# Altium footprint library WE-SHC.PcbLib: 139 footprints (part 6 of 10)
Each footprint in its own frame and in the unit in brackets; x right, y up, seen from the top. Pads: shape width x height; smd on the part's side, far side on the other; paste and mask are expansions set on the pad; w line width, h text height; cw(c..) or ccw(c..) is an arc to the next point about the centre after c.
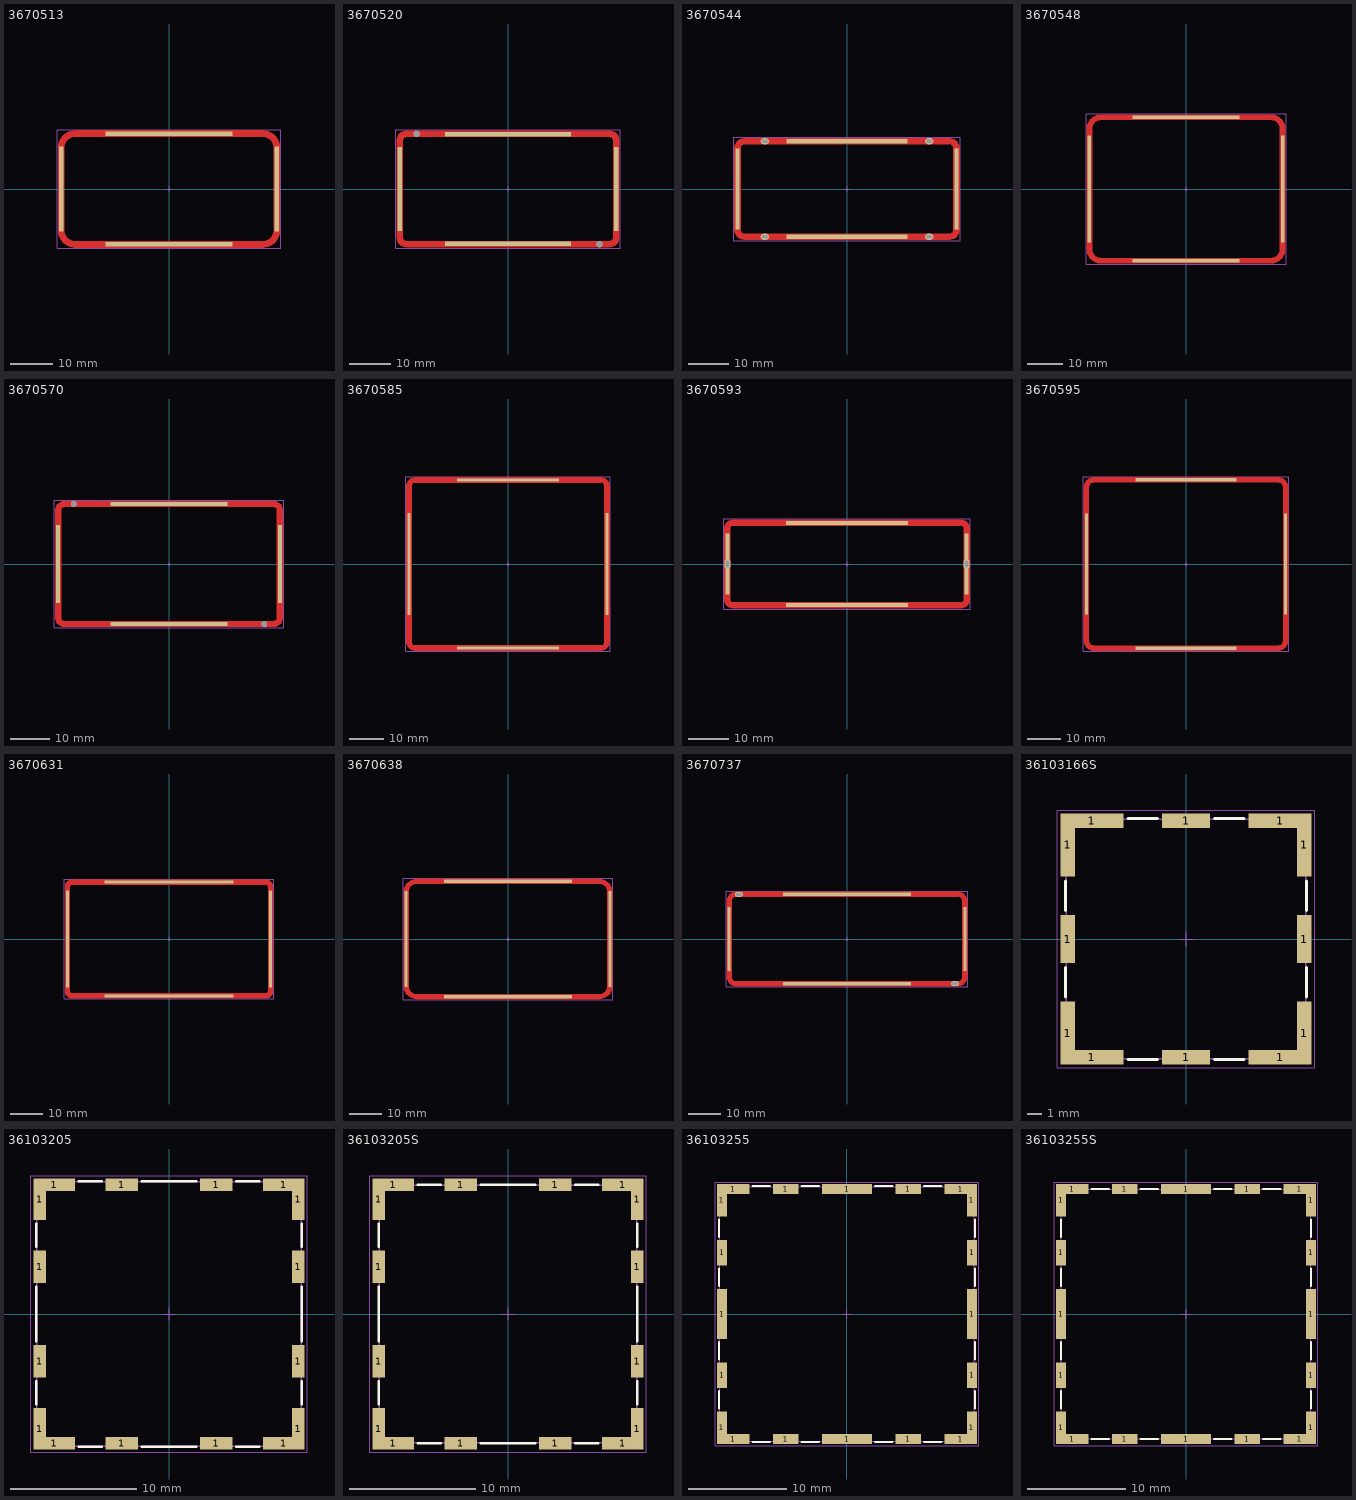
[diagram p5: the footprints below, top view; thin cyan lines are the x and y axes]

## 3670513 [mm] "Shielding Cabinet, SMT Frame Seamless, 51.3x26.5x9.5mm"
height 9.5
pads (4):
  rect 1x20 smd paste-2539.97 mask-2222: 1(-25.5,0) 1(25.5,0)
  rect 30x1 smd paste-2539.97 mask-2222: 1(0,-13.1) 1(0,13.1)
Top Layer:
  region: -26.25,-1 -26.25,9.75 -26.25,10.019 -26.18,10.552 -26.041,11.071 -25.835,11.567 -25.566,12.033 -25.239,12.459 -24.859,12.839 -24.433,13.166 -23.967,13.435 -23.471,13.641 -22.952,13.78 -22.419,13.85 -22.15,13.85 22.15,13.85 22.419,13.85 22.952,13.78 23.471,13.641 23.967,13.435 24.433,13.166 24.859,12.839 25.239,12.459 25.566,12.033 25.835,11.567 26.041,11.071 26.18,10.552 26.25,10.019 26.25,9.75 26.25,-1 24.75,-1 24.75,9.75 24.737,10.005 24.638,10.505 24.443,10.976 24.16,11.399 23.799,11.76 23.376,12.043 22.905,12.238 22.405,12.337 22.15,12.35 -22.15,12.35 -22.405,12.337 -22.905,12.238 -23.376,12.043 -23.799,11.76 -24.16,11.399 -24.443,10.976 -24.638,10.505 -24.737,10.005 -24.75,9.75 -24.75,-1
  region: -26.25,-0.5 -26.25,-9.75 -26.25,-10.019 -26.18,-10.552 -26.041,-11.071 -25.835,-11.567 -25.566,-12.033 -25.239,-12.459 -24.859,-12.839 -24.433,-13.166 -23.967,-13.435 -23.471,-13.641 -22.952,-13.78 -22.419,-13.85 -22.15,-13.85 22.15,-13.85 22.419,-13.85 22.952,-13.78 23.471,-13.641 23.967,-13.435 24.433,-13.166 24.859,-12.839 25.239,-12.459 25.566,-12.033 25.835,-11.567 26.041,-11.071 26.18,-10.552 26.25,-10.019 26.25,-9.75 26.25,-0.5 24.75,-0.5 24.75,-9.75 24.737,-10.005 24.638,-10.505 24.443,-10.976 24.16,-11.399 23.799,-11.76 23.376,-12.043 22.905,-12.238 22.405,-12.337 22.15,-12.35 -22.15,-12.35 -22.405,-12.337 -22.905,-12.238 -23.376,-12.043 -23.799,-11.76 -24.16,-11.399 -24.443,-10.976 -24.638,-10.505 -24.737,-10.005 -24.75,-9.75 -24.75,-0.5
Top Paste:
  region: -26.25,-0.25 -26.25,-9.75 -26.25,-10.019 -26.18,-10.552 -26.041,-11.071 -25.835,-11.567 -25.566,-12.033 -25.239,-12.459 -24.859,-12.839 -24.433,-13.166 -23.967,-13.435 -23.471,-13.641 -22.952,-13.78 -22.419,-13.85 -22.15,-13.85 22.15,-13.85 22.419,-13.85 22.952,-13.78 23.471,-13.641 23.967,-13.435 24.433,-13.166 24.859,-12.839 25.239,-12.459 25.566,-12.033 25.835,-11.567 26.041,-11.071 26.18,-10.552 26.25,-10.019 26.25,-9.75 26.25,-0.25 24.75,-0.25 24.75,-9.75 24.737,-10.005 24.638,-10.505 24.443,-10.976 24.16,-11.399 23.799,-11.76 23.376,-12.043 22.905,-12.238 22.405,-12.337 22.15,-12.35 -22.15,-12.35 -22.405,-12.337 -22.905,-12.238 -23.376,-12.043 -23.799,-11.76 -24.16,-11.399 -24.443,-10.976 -24.638,-10.505 -24.737,-10.005 -24.75,-9.75 -24.75,-0.25
  region: -26.25,0.25 -26.25,9.75 -26.25,10.019 -26.18,10.552 -26.041,11.071 -25.835,11.567 -25.566,12.033 -25.239,12.459 -24.859,12.839 -24.433,13.166 -23.967,13.435 -23.471,13.641 -22.952,13.78 -22.419,13.85 -22.15,13.85 22.15,13.85 22.419,13.85 22.952,13.78 23.471,13.641 23.967,13.435 24.433,13.166 24.859,12.839 25.239,12.459 25.566,12.033 25.835,11.567 26.041,11.071 26.18,10.552 26.25,10.019 26.25,9.75 26.25,0.25 24.75,0.25 24.75,9.75 24.737,10.005 24.638,10.505 24.443,10.976 24.16,11.399 23.799,11.76 23.376,12.043 22.905,12.238 22.405,12.337 22.15,12.35 -22.15,12.35 -22.405,12.337 -22.905,12.238 -23.376,12.043 -23.799,11.76 -24.16,11.399 -24.443,10.976 -24.638,10.505 -24.737,10.005 -24.75,9.75 -24.75,0.25
Assembly Notes:
  text "recommended tin paste thickness=0.5mm / customer to define the final stencil gap" at -7.85,-15.85 h0.5
Top Component Outline:
  lines w0.1: -25.65,-9.75 ccw(c-22.15,-9.75) -22.15,-13.25 22.15,-13.25 ccw(c22.15,-9.75) 25.65,-9.75 25.65,9.75 ccw(c22.15,9.75) 22.15,13.25 -22.15,13.25 ccw(c-22.15,9.75) -25.65,9.75 -25.65,-9.75
Top 3D Body:
  lines w0.1: -25.65,-9.75 ccw(c-22.15,-9.75) -22.15,-13.25 22.15,-13.25 ccw(c22.15,-9.75) 25.65,-9.75 25.65,9.75 ccw(c22.15,9.75) 22.15,13.25 -22.15,13.25 ccw(c-22.15,9.75) -25.65,9.75 -25.65,-9.75
Top Courtyard:
  lines w0.05: -26.45,-14.05 -26.45,14.05 26.45,14.05 26.45,-14.05 -26.45,-14.05
Top Component Center:
  lines w0.05: -0.5,0 0.5,0 ; 0,-0.5 0,0.5
Top Designator (Mech19):
  text ".Designator" at -7.498,-0.5 h1.5
3D body "3670513.stp": height 9.5, standoff 0, extent -25.65,-13.25 25.65,13.25

## 3670520 [mm] "Shielding Cabinet, SMT Frame Seamless, 52x26.7x6mm"
height 6
pads (6):
  rect 1x20 smd paste-2539.97 mask-2222: 1(-25.85,0) 1(25.85,0)
  round 1.5 hole 1.3: 1(-21.85,13.2) 1(21.85,-13.2)
  rect 30x1 smd paste-2539.97 mask-2222: 1(0,-13.1) 1(0,13.1)
Top Layer:
  region: -26.6,-1 -26.6,11.55 -26.6,11.786 -26.508,12.25 -26.327,12.687 -26.064,13.08 -25.73,13.414 -25.337,13.677 -24.9,13.858 -24.436,13.95 -24.2,13.95 24.2,13.95 24.436,13.95 24.9,13.858 25.337,13.677 25.73,13.414 26.064,13.08 26.327,12.687 26.508,12.25 26.6,11.786 26.6,11.55 26.6,-1 25.1,-1 25.1,11.55 25.096,11.638 25.061,11.811 24.994,11.974 24.896,12.121 24.771,12.246 24.624,12.344 24.461,12.411 24.288,12.446 24.2,12.45 -24.2,12.45 -24.288,12.446 -24.461,12.411 -24.624,12.344 -24.771,12.246 -24.896,12.121 -24.994,11.974 -25.061,11.811 -25.096,11.638 -25.1,11.55 -25.1,-1
  region: -26.6,-0.25 -26.6,-11.55 -26.6,-11.786 -26.508,-12.25 -26.327,-12.687 -26.064,-13.08 -25.73,-13.414 -25.337,-13.677 -24.9,-13.858 -24.436,-13.95 -24.2,-13.95 24.2,-13.95 24.436,-13.95 24.9,-13.858 25.337,-13.677 25.73,-13.414 26.064,-13.08 26.327,-12.687 26.508,-12.25 26.6,-11.786 26.6,-11.55 26.6,-0.25 25.1,-0.25 25.1,-11.55 25.096,-11.638 25.061,-11.811 24.994,-11.974 24.896,-12.121 24.771,-12.246 24.624,-12.344 24.461,-12.411 24.288,-12.446 24.2,-12.45 -24.2,-12.45 -24.288,-12.446 -24.461,-12.411 -24.624,-12.344 -24.771,-12.246 -24.896,-12.121 -24.994,-11.974 -25.061,-11.811 -25.096,-11.638 -25.1,-11.55 -25.1,-0.25
Top Paste:
  region: -26.6,-0.25 -26.6,-11.55 -26.6,-11.786 -26.508,-12.25 -26.327,-12.687 -26.064,-13.08 -25.73,-13.414 -25.337,-13.677 -24.9,-13.858 -24.436,-13.95 -24.2,-13.95 24.2,-13.95 24.436,-13.95 24.9,-13.858 25.337,-13.677 25.73,-13.414 26.064,-13.08 26.327,-12.687 26.508,-12.25 26.6,-11.786 26.6,-11.55 26.6,-0.25 25.1,-0.25 25.1,-11.55 25.096,-11.638 25.061,-11.811 24.994,-11.974 24.896,-12.121 24.771,-12.246 24.624,-12.344 24.461,-12.411 24.288,-12.446 24.2,-12.45 -24.2,-12.45 -24.288,-12.446 -24.461,-12.411 -24.624,-12.344 -24.771,-12.246 -24.896,-12.121 -24.994,-11.974 -25.061,-11.811 -25.096,-11.638 -25.1,-11.55 -25.1,-0.25
  region: -26.6,0.25 -26.6,11.55 -26.6,11.786 -26.508,12.25 -26.327,12.687 -26.064,13.08 -25.73,13.414 -25.337,13.677 -24.9,13.858 -24.436,13.95 -24.2,13.95 24.2,13.95 24.436,13.95 24.9,13.858 25.337,13.677 25.73,13.414 26.064,13.08 26.327,12.687 26.508,12.25 26.6,11.786 26.6,11.55 26.6,0.25 25.1,0.25 25.1,11.55 25.096,11.638 25.061,11.811 24.994,11.974 24.896,12.121 24.771,12.246 24.624,12.344 24.461,12.411 24.288,12.446 24.2,12.45 -24.2,12.45 -24.288,12.446 -24.461,12.411 -24.624,12.344 -24.771,12.246 -24.896,12.121 -24.994,11.974 -25.061,11.811 -25.096,11.638 -25.1,11.55 -25.1,0.25
Assembly Notes:
  text "recommended tin paste thickness=0.5mm / customer to define the final stencil gap" at -7.85,-15.85 h0.5
Top Component Outline:
  lines w0.1: -26,-11.6 ccw(c-24.25,-11.6) -24.25,-13.35 24.25,-13.35 ccw(c24.25,-11.6) 26,-11.6 26,11.6 ccw(c24.25,11.6) 24.25,13.35 -24.25,13.35 ccw(c-24.25,11.6) -26,11.6 -26,-11.6
Top 3D Body:
  lines w0.1: -26,-11.6 ccw(c-24.25,-11.6) -24.25,-13.35 24.25,-13.35 ccw(c24.25,-11.6) 26,-11.6 26,11.6 ccw(c24.25,11.6) 24.25,13.35 -24.25,13.35 ccw(c-24.25,11.6) -26,11.6 -26,-11.6
Top Courtyard:
  lines w0.05: -26.8,-14.15 26.8,-14.15 26.8,14.15 -26.8,14.15 -26.8,-14.15
Top Component Center:
  lines w0.05: -0.5,0 0.5,0 ; 0,-0.5 0,0.5
Top Designator (Mech19):
  text ".Designator" at -7.498,-0.5 h1.5
3D body "3670520.stp": height 6, standoff -1.2, extent -26,-13.35 26,13.35

## 3670544 [mm] "Shielding Cabinet, SMT Frame Seamless, 54.4x23.9x7.5mm"
height 7.5
pads (8):
  rect 1x20 smd paste-2539.97 mask-2222: 1(-27.05,0) 1(27.05,0)
  oval 2.1x1.5 hole 0.8 slot 1.4 at 0 deg: 1(-20.3,-11.8) 1(-20.3,11.8) 1(20.3,-11.8) 1(20.3,11.8)
  rect 30x1 smd paste-2539.97 mask-2222: 1(0,-11.8) 1(0,11.8)
Top Layer:
  region: -27.8,-1 -27.8,10.05 -27.8,10.296 -27.704,10.779 -27.515,11.234 -27.242,11.644 -26.894,11.992 -26.484,12.265 -26.029,12.454 -25.546,12.55 -25.3,12.55 25.3,12.55 25.546,12.55 26.029,12.454 26.484,12.265 26.894,11.992 27.242,11.644 27.515,11.234 27.704,10.779 27.8,10.296 27.8,10.05 27.8,-1 26.3,-1 26.3,10.05 26.295,10.148 26.257,10.34 26.182,10.521 26.073,10.684 25.934,10.823 25.771,10.932 25.59,11.007 25.398,11.045 25.3,11.05 -25.3,11.05 -25.398,11.045 -25.59,11.007 -25.771,10.932 -25.934,10.823 -26.073,10.684 -26.182,10.521 -26.257,10.34 -26.295,10.148 -26.3,10.05 -26.3,-1
  region: -27.8,-0.25 -27.8,-10.05 -27.8,-10.296 -27.704,-10.779 -27.515,-11.234 -27.242,-11.644 -26.894,-11.992 -26.484,-12.265 -26.029,-12.454 -25.546,-12.55 -25.3,-12.55 25.3,-12.55 25.546,-12.55 26.029,-12.454 26.484,-12.265 26.894,-11.992 27.242,-11.644 27.515,-11.234 27.704,-10.779 27.8,-10.296 27.8,-10.05 27.8,-0.25 26.3,-0.25 26.3,-10.05 26.295,-10.148 26.257,-10.34 26.182,-10.521 26.073,-10.684 25.934,-10.823 25.771,-10.932 25.59,-11.007 25.398,-11.045 25.3,-11.05 -25.3,-11.05 -25.398,-11.045 -25.59,-11.007 -25.771,-10.932 -25.934,-10.823 -26.073,-10.684 -26.182,-10.521 -26.257,-10.34 -26.295,-10.148 -26.3,-10.05 -26.3,-0.25
Top Paste:
  region: -27.8,-0.25 -27.8,-10.05 -27.8,-10.296 -27.704,-10.779 -27.515,-11.234 -27.242,-11.644 -26.894,-11.992 -26.484,-12.265 -26.029,-12.454 -25.546,-12.55 -25.3,-12.55 25.3,-12.55 25.546,-12.55 26.029,-12.454 26.484,-12.265 26.894,-11.992 27.242,-11.644 27.515,-11.234 27.704,-10.779 27.8,-10.296 27.8,-10.05 27.8,-0.25 26.3,-0.25 26.3,-10.05 26.295,-10.148 26.257,-10.34 26.182,-10.521 26.073,-10.684 25.934,-10.823 25.771,-10.932 25.59,-11.007 25.398,-11.045 25.3,-11.05 -25.3,-11.05 -25.398,-11.045 -25.59,-11.007 -25.771,-10.932 -25.934,-10.823 -26.073,-10.684 -26.182,-10.521 -26.257,-10.34 -26.295,-10.148 -26.3,-10.05 -26.3,-0.25
  region: -27.8,0.25 -27.8,10.05 -27.8,10.296 -27.704,10.779 -27.515,11.234 -27.242,11.644 -26.894,11.992 -26.484,12.265 -26.029,12.454 -25.546,12.55 -25.3,12.55 25.3,12.55 25.546,12.55 26.029,12.454 26.484,12.265 26.894,11.992 27.242,11.644 27.515,11.234 27.704,10.779 27.8,10.296 27.8,10.05 27.8,0.25 26.3,0.25 26.3,10.05 26.295,10.148 26.257,10.34 26.182,10.521 26.073,10.684 25.934,10.823 25.771,10.932 25.59,11.007 25.398,11.045 25.3,11.05 -25.3,11.05 -25.398,11.045 -25.59,11.007 -25.771,10.932 -25.934,10.823 -26.073,10.684 -26.182,10.521 -26.257,10.34 -26.295,10.148 -26.3,10.05 -26.3,0.25
Assembly Notes:
  text "recommended tin paste thickness=0.5mm / customer to define the final stencil gap" at -7.8,-14.5 h0.5
Top Component Outline:
  lines w0.1: -27.2,-10.2 ccw(c-25.45,-10.2) -25.45,-11.95 25.45,-11.95 ccw(c25.45,-10.2) 27.2,-10.2 27.2,10.2 ccw(c25.45,10.2) 25.45,11.95 -25.45,11.95 ccw(c-25.45,10.2) -27.2,10.2 -27.2,-10.2
Top 3D Body:
  lines w0.1: -27.2,-10.2 ccw(c-25.45,-10.2) -25.45,-11.95 25.45,-11.95 ccw(c25.45,-10.2) 27.2,-10.2 27.2,10.2 ccw(c25.45,10.2) 25.45,11.95 -25.45,11.95 ccw(c-25.45,10.2) -27.2,10.2 -27.2,-10.2
Top Courtyard:
  lines w0.05: -28,-12.75 28,-12.75 28,12.75 -28,12.75 -28,-12.75
Top Component Center:
  lines w0.05: -0.5,0 0.5,0 ; 0,-0.5 0,0.5
Top Designator (Mech19):
  text ".Designator" at -7.498,-0.5 h1.5
3D body "3670544.stp": height 7.5, standoff -1.2, extent -27.2,-11.95 27.2,11.95

## 3670548 [mm] "Shielding Cabinet, SMT Frame Seamless, 54.8x40.8x11mm"
height 11
pads (4):
  rect 1x30 smd paste-2539.97 mask-2222: 1(-27.15,0) 1(27.15,0)
  rect 30x1 smd paste-2539.97 mask-2222: 1(0,-20.15) 1(0,20.15)
Top Layer:
  region: -27.9,-1 -27.9,16.9 -27.9,17.162 -27.832,17.682 -27.696,18.189 -27.495,18.673 -27.233,19.127 -26.914,19.543 -26.543,19.914 -26.127,20.233 -25.673,20.495 -25.189,20.696 -24.682,20.832 -24.162,20.9 -23.9,20.9 23.9,20.9 24.162,20.9 24.682,20.832 25.189,20.696 25.673,20.495 26.127,20.233 26.543,19.914 26.914,19.543 27.233,19.127 27.495,18.673 27.696,18.189 27.832,17.682 27.9,17.162 27.9,16.9 27.9,-1 26.4,-1 26.4,16.9 26.388,17.145 26.292,17.626 26.105,18.078 25.833,18.486 25.486,18.833 25.078,19.105 24.626,19.292 24.145,19.388 23.9,19.4 -23.9,19.4 -24.145,19.388 -24.626,19.292 -25.078,19.105 -25.486,18.833 -25.833,18.486 -26.105,18.078 -26.292,17.626 -26.388,17.145 -26.4,16.9 -26.4,-1
  region: -27.9,-0.25 -27.9,-16.9 -27.9,-17.162 -27.832,-17.682 -27.696,-18.189 -27.495,-18.673 -27.233,-19.127 -26.914,-19.543 -26.543,-19.914 -26.127,-20.233 -25.673,-20.495 -25.189,-20.696 -24.682,-20.832 -24.162,-20.9 -23.9,-20.9 23.9,-20.9 24.162,-20.9 24.682,-20.832 25.189,-20.696 25.673,-20.495 26.127,-20.233 26.543,-19.914 26.914,-19.543 27.233,-19.127 27.495,-18.673 27.696,-18.189 27.832,-17.682 27.9,-17.162 27.9,-16.9 27.9,-0.25 26.4,-0.25 26.4,-16.9 26.388,-17.145 26.292,-17.626 26.105,-18.078 25.833,-18.486 25.486,-18.833 25.078,-19.105 24.626,-19.292 24.145,-19.388 23.9,-19.4 -23.9,-19.4 -24.145,-19.388 -24.626,-19.292 -25.078,-19.105 -25.486,-18.833 -25.833,-18.486 -26.105,-18.078 -26.292,-17.626 -26.388,-17.145 -26.4,-16.9 -26.4,-0.25
Top Paste:
  region: -27.9,-0.25 -27.9,-16.9 -27.9,-17.162 -27.832,-17.682 -27.696,-18.189 -27.495,-18.673 -27.233,-19.127 -26.914,-19.543 -26.543,-19.914 -26.127,-20.233 -25.673,-20.495 -25.189,-20.696 -24.682,-20.832 -24.162,-20.9 -23.9,-20.9 23.9,-20.9 24.162,-20.9 24.682,-20.832 25.189,-20.696 25.673,-20.495 26.127,-20.233 26.543,-19.914 26.914,-19.543 27.233,-19.127 27.495,-18.673 27.696,-18.189 27.832,-17.682 27.9,-17.162 27.9,-16.9 27.9,-0.25 26.4,-0.25 26.4,-16.9 26.388,-17.145 26.292,-17.626 26.105,-18.078 25.833,-18.486 25.486,-18.833 25.078,-19.105 24.626,-19.292 24.145,-19.388 23.9,-19.4 -23.9,-19.4 -24.145,-19.388 -24.626,-19.292 -25.078,-19.105 -25.486,-18.833 -25.833,-18.486 -26.105,-18.078 -26.292,-17.626 -26.388,-17.145 -26.4,-16.9 -26.4,-0.25
  region: -27.9,0.25 -27.9,16.9 -27.9,17.162 -27.832,17.682 -27.696,18.189 -27.495,18.673 -27.233,19.127 -26.914,19.543 -26.543,19.914 -26.127,20.233 -25.673,20.495 -25.189,20.696 -24.682,20.832 -24.162,20.9 -23.9,20.9 23.9,20.9 24.162,20.9 24.682,20.832 25.189,20.696 25.673,20.495 26.127,20.233 26.543,19.914 26.914,19.543 27.233,19.127 27.495,18.673 27.696,18.189 27.832,17.682 27.9,17.162 27.9,16.9 27.9,0.25 26.4,0.25 26.4,16.9 26.388,17.145 26.292,17.626 26.105,18.078 25.833,18.486 25.486,18.833 25.078,19.105 24.626,19.292 24.145,19.388 23.9,19.4 -23.9,19.4 -24.145,19.388 -24.626,19.292 -25.078,19.105 -25.486,18.833 -25.833,18.486 -26.105,18.078 -26.292,17.626 -26.388,17.145 -26.4,16.9 -26.4,0.25
Assembly Notes:
  text "recommended tin paste thickness=0.5mm / customer to define the final stencil gap" at -7,-23.05 h0.5
Top Component Outline:
  lines w0.1: -27.4,-16.9 ccw(c-23.9,-16.9) -23.9,-20.4 23.9,-20.4 ccw(c23.9,-16.9) 27.4,-16.9 27.4,16.9 ccw(c23.9,16.9) 23.9,20.4 -23.9,20.4 ccw(c-23.9,16.9) -27.4,16.9 -27.4,-16.9
Top 3D Body:
  lines w0.1: -27.4,-16.9 ccw(c-23.9,-16.9) -23.9,-20.4 23.9,-20.4 ccw(c23.9,-16.9) 27.4,-16.9 27.4,16.9 ccw(c23.9,16.9) 23.9,20.4 -23.9,20.4 ccw(c-23.9,16.9) -27.4,16.9 -27.4,-16.9
Top Courtyard:
  lines w0.05: -28.1,-21.1 28.1,-21.1 28.1,21.1 -28.1,21.1 -28.1,-21.1
Top Component Center:
  lines w0.05: -0.5,0 0.5,0 ; 0,-0.5 0,0.5
Top Designator (Mech19):
  text ".Designator" at -7.498,-0.5 h1.5
3D body "3670548.stp": height 11, standoff 0, extent -27.4,-20.4 27.4,20.4

## 3670570 [mm] "Shielding Cabinet, SMT Frame Seamless, 57x31x6mm"
height 6
pads (6):
  rect 1x20 smd paste-2539.97 mask-2222: 1(-28.35,0) 1(28.35,0)
  round 1.5 hole 1.3: 1(-24.35,15.35) 1(24.35,-15.35)
  rect 30x1 smd paste-2539.97 mask-2222: 1(0,-15.35) 1(0,15.35)
Top Layer:
  region: -29.1,-1 -29.1,13.7 -29.1,13.936 -29.008,14.4 -28.827,14.837 -28.564,15.23 -28.23,15.564 -27.837,15.827 -27.4,16.008 -26.936,16.1 -26.7,16.1 26.7,16.1 26.936,16.1 27.4,16.008 27.837,15.827 28.23,15.564 28.564,15.23 28.827,14.837 29.008,14.4 29.1,13.936 29.1,13.7 29.1,-1 27.6,-1 27.6,13.7 27.596,13.788 27.561,13.961 27.494,14.124 27.396,14.271 27.271,14.396 27.124,14.494 26.961,14.561 26.788,14.596 26.7,14.6 -26.7,14.6 -26.788,14.596 -26.961,14.561 -27.124,14.494 -27.271,14.396 -27.396,14.271 -27.494,14.124 -27.561,13.961 -27.596,13.788 -27.6,13.7 -27.6,-1
  region: -29.1,-0.25 -29.1,-13.7 -29.1,-13.936 -29.008,-14.4 -28.827,-14.837 -28.564,-15.23 -28.23,-15.564 -27.837,-15.827 -27.4,-16.008 -26.936,-16.1 -26.7,-16.1 26.7,-16.1 26.936,-16.1 27.4,-16.008 27.837,-15.827 28.23,-15.564 28.564,-15.23 28.827,-14.837 29.008,-14.4 29.1,-13.936 29.1,-13.7 29.1,-0.25 27.6,-0.25 27.6,-13.7 27.596,-13.788 27.561,-13.961 27.494,-14.124 27.396,-14.271 27.271,-14.396 27.124,-14.494 26.961,-14.561 26.788,-14.596 26.7,-14.6 -26.7,-14.6 -26.788,-14.596 -26.961,-14.561 -27.124,-14.494 -27.271,-14.396 -27.396,-14.271 -27.494,-14.124 -27.561,-13.961 -27.596,-13.788 -27.6,-13.7 -27.6,-0.25
Top Paste:
  region: -29.1,-0.25 -29.1,-13.7 -29.1,-13.936 -29.008,-14.4 -28.827,-14.837 -28.564,-15.23 -28.23,-15.564 -27.837,-15.827 -27.4,-16.008 -26.936,-16.1 -26.7,-16.1 26.7,-16.1 26.936,-16.1 27.4,-16.008 27.837,-15.827 28.23,-15.564 28.564,-15.23 28.827,-14.837 29.008,-14.4 29.1,-13.936 29.1,-13.7 29.1,-0.25 27.6,-0.25 27.6,-13.7 27.596,-13.788 27.561,-13.961 27.494,-14.124 27.396,-14.271 27.271,-14.396 27.124,-14.494 26.961,-14.561 26.788,-14.596 26.7,-14.6 -26.7,-14.6 -26.788,-14.596 -26.961,-14.561 -27.124,-14.494 -27.271,-14.396 -27.396,-14.271 -27.494,-14.124 -27.561,-13.961 -27.596,-13.788 -27.6,-13.7 -27.6,-0.25
  region: -29.1,0.25 -29.1,13.7 -29.1,13.936 -29.008,14.4 -28.827,14.837 -28.564,15.23 -28.23,15.564 -27.837,15.827 -27.4,16.008 -26.936,16.1 -26.7,16.1 26.7,16.1 26.936,16.1 27.4,16.008 27.837,15.827 28.23,15.564 28.564,15.23 28.827,14.837 29.008,14.4 29.1,13.936 29.1,13.7 29.1,0.25 27.6,0.25 27.6,13.7 27.596,13.788 27.561,13.961 27.494,14.124 27.396,14.271 27.271,14.396 27.124,14.494 26.961,14.561 26.788,14.596 26.7,14.6 -26.7,14.6 -26.788,14.596 -26.961,14.561 -27.124,14.494 -27.271,14.396 -27.396,14.271 -27.494,14.124 -27.561,13.961 -27.596,13.788 -27.6,13.7 -27.6,0.25
Assembly Notes:
  text "recommended tin paste thickness=0.5mm / customer to define the final stencil gap" at -7.4,-18.2 h0.5
Top Component Outline:
  lines w0.1: -28.5,-13.75 ccw(c-26.75,-13.75) -26.75,-15.5 26.75,-15.5 ccw(c26.75,-13.75) 28.5,-13.75 28.5,13.75 ccw(c26.75,13.75) 26.75,15.5 -26.75,15.5 ccw(c-26.75,13.75) -28.5,13.75 -28.5,-13.75
Top 3D Body:
  lines w0.1: -28.5,-13.75 ccw(c-26.75,-13.75) -26.75,-15.5 26.75,-15.5 ccw(c26.75,-13.75) 28.5,-13.75 28.5,13.75 ccw(c26.75,13.75) 26.75,15.5 -26.75,15.5 ccw(c-26.75,13.75) -28.5,13.75 -28.5,-13.75
Top Courtyard:
  lines w0.05: -29.3,-16.3 29.3,-16.3 29.3,16.3 -29.3,16.3 -29.3,-16.3
Top Component Center:
  lines w0.05: -0.5,0 0.5,0 ; 0,-0.5 0,0.5
Top Designator (Mech19):
  text ".Designator" at -7.498,-0.5 h1.5
3D body "3670570.stp": height 6, standoff -1.2, extent -28.5,-15.5 28.5,15.5

## 3670585 [mm] "Shielding Cabinet, SMT Frame Seamless, 58.5x49.7x4.7mm"
height 4.7
pads (4):
  rect 1x30 smd paste-2539.97 mask-2222: 1(-29.1,0) 1(29.1,0)
  rect 30x1 smd paste-2539.97 mask-2222: 1(0,-24.7) 1(0,24.7)
Top Layer:
  region: -29.85,-0.25 -29.85,-22.85 -29.85,-23.106 -29.75,-23.608 -29.554,-24.082 -29.27,-24.507 -28.907,-24.87 -28.482,-25.154 -28.008,-25.35 -27.506,-25.45 -27.25,-25.45 27.25,-25.45 27.506,-25.45 28.008,-25.35 28.482,-25.154 28.907,-24.87 29.27,-24.507 29.554,-24.082 29.75,-23.608 29.85,-23.106 29.85,-22.85 29.85,-0.25 28.35,-0.25 28.35,-22.85 28.345,-22.958 28.303,-23.169 28.22,-23.369 28.1,-23.548 27.948,-23.7 27.769,-23.82 27.569,-23.903 27.358,-23.945 27.25,-23.95 -27.25,-23.95 -27.358,-23.945 -27.569,-23.903 -27.769,-23.82 -27.948,-23.7 -28.1,-23.548 -28.22,-23.369 -28.303,-23.169 -28.345,-22.958 -28.35,-22.85 -28.35,-0.25
  region: -29.85,-1 -29.85,22.85 -29.85,23.106 -29.75,23.608 -29.554,24.082 -29.27,24.507 -28.907,24.87 -28.482,25.154 -28.008,25.35 -27.506,25.45 -27.25,25.45 27.25,25.45 27.506,25.45 28.008,25.35 28.482,25.154 28.907,24.87 29.27,24.507 29.554,24.082 29.75,23.608 29.85,23.106 29.85,22.85 29.85,-1 28.35,-1 28.35,22.85 28.345,22.958 28.303,23.169 28.22,23.369 28.1,23.548 27.948,23.7 27.769,23.82 27.569,23.903 27.358,23.945 27.25,23.95 -27.25,23.95 -27.358,23.945 -27.569,23.903 -27.769,23.82 -27.948,23.7 -28.1,23.548 -28.22,23.369 -28.303,23.169 -28.345,22.958 -28.35,22.85 -28.35,-1
Top Paste:
  region: -29.85,0.25 -29.85,22.85 -29.85,23.106 -29.75,23.608 -29.554,24.082 -29.27,24.507 -28.907,24.87 -28.482,25.154 -28.008,25.35 -27.506,25.45 -27.25,25.45 27.25,25.45 27.506,25.45 28.008,25.35 28.482,25.154 28.907,24.87 29.27,24.507 29.554,24.082 29.75,23.608 29.85,23.106 29.85,22.85 29.85,0.25 28.35,0.25 28.35,22.85 28.345,22.958 28.303,23.169 28.22,23.369 28.1,23.548 27.948,23.7 27.769,23.82 27.569,23.903 27.358,23.945 27.25,23.95 -27.25,23.95 -27.358,23.945 -27.569,23.903 -27.769,23.82 -27.948,23.7 -28.1,23.548 -28.22,23.369 -28.303,23.169 -28.345,22.958 -28.35,22.85 -28.35,0.25
  region: -29.85,-0.25 -29.85,-22.85 -29.85,-23.106 -29.75,-23.608 -29.554,-24.082 -29.27,-24.507 -28.907,-24.87 -28.482,-25.154 -28.008,-25.35 -27.506,-25.45 -27.25,-25.45 27.25,-25.45 27.506,-25.45 28.008,-25.35 28.482,-25.154 28.907,-24.87 29.27,-24.507 29.554,-24.082 29.75,-23.608 29.85,-23.106 29.85,-22.85 29.85,-0.25 28.35,-0.25 28.35,-22.85 28.345,-22.958 28.303,-23.169 28.22,-23.369 28.1,-23.548 27.948,-23.7 27.769,-23.82 27.569,-23.903 27.358,-23.945 27.25,-23.95 -27.25,-23.95 -27.358,-23.945 -27.569,-23.903 -27.769,-23.82 -27.948,-23.7 -28.1,-23.548 -28.22,-23.369 -28.303,-23.169 -28.345,-22.958 -28.35,-22.85 -28.35,-0.25
Assembly Notes:
  text "recommended tin paste thickness=0.5mm / customer to define the final stencil gap" at -8.75,-27.9 h0.6
Top Component Outline:
  lines w0.1: -29.25,-22.85 ccw(c-27.25,-22.85) -27.25,-24.85 27.25,-24.85 ccw(c27.25,-22.85) 29.25,-22.85 29.25,22.85 ccw(c27.25,22.85) 27.25,24.85 -27.25,24.85 ccw(c-27.25,22.85) -29.25,22.85 -29.25,-22.85
Top 3D Body:
  lines w0.1: -29.25,-22.85 ccw(c-27.25,-22.85) -27.25,-24.85 27.25,-24.85 ccw(c27.25,-22.85) 29.25,-22.85 29.25,22.85 ccw(c27.25,22.85) 27.25,24.85 -27.25,24.85 ccw(c-27.25,22.85) -29.25,22.85 -29.25,-22.85
Top Courtyard:
  lines w0.05: -30.05,-25.65 -30.05,25.65 30.05,25.65 30.05,-25.65 -30.05,-25.65
Top Component Center:
  lines w0.05: -0.5,0 0.5,0 ; 0,-0.5 0,0.5
Top Designator (Mech19):
  text ".Designator" at -7.498,-0.5 h1.5
3D body "3670585.stp": height 4.7, standoff 0, extent -29.25,-24.85 29.25,24.85

## 3670593 [mm] "Shielding Cabinet, SMT Frame Seamless, 59.3x20.6x2.8mm"
height 2.8
pads (6):
  rect 1x15 smd paste-2539.97 mask-2222: 1(-29.5,0) 1(29.5,0)
  oval 1.5x2.4 hole 0.8 slot 1.6 at 90 deg: 1(-29.5,0) 1(29.5,0)
  rect 30x1 smd paste-2539.97 mask-2222: 1(0,-10.15) 1(0,10.15)
Top Layer:
  region: -30.25,-8.9 -30.25,8.9 -30.25,9.097 -30.173,9.483 -30.022,9.847 -29.804,10.175 -29.525,10.454 -29.197,10.672 -28.833,10.823 -28.447,10.9 -28.25,10.9 1,10.9 1,9.4 -28.25,9.4 -28.348,9.39 -28.528,9.316 -28.666,9.178 -28.74,8.998 -28.75,8.9 -28.75,-8.9 -28.74,-8.998 -28.666,-9.178 -28.528,-9.316 -28.348,-9.39 -28.25,-9.4 1,-9.4 1,-10.9 -28.25,-10.9 -28.447,-10.9 -28.833,-10.823 -29.197,-10.672 -29.525,-10.454 -29.804,-10.175 -30.022,-9.847 -30.173,-9.483 -30.25,-9.097
  region: 30.25,-8.9 30.25,8.9 30.25,9.097 30.173,9.483 30.022,9.847 29.804,10.175 29.525,10.454 29.197,10.672 28.833,10.823 28.447,10.9 28.25,10.9 0.25,10.9 0.25,9.4 28.25,9.4 28.348,9.39 28.528,9.316 28.666,9.178 28.74,8.998 28.75,8.9 28.75,-8.9 28.74,-8.998 28.666,-9.178 28.528,-9.316 28.348,-9.39 28.25,-9.4 0.25,-9.4 0.25,-10.9 28.25,-10.9 28.447,-10.9 28.833,-10.823 29.197,-10.672 29.525,-10.454 29.804,-10.175 30.022,-9.847 30.173,-9.483 30.25,-9.097
Top Paste:
  region: 30.25,-8.9 30.25,8.9 30.25,9.097 30.173,9.483 30.022,9.847 29.804,10.175 29.525,10.454 29.197,10.672 28.833,10.823 28.447,10.9 28.25,10.9 0.25,10.9 0.25,9.4 28.25,9.4 28.348,9.39 28.528,9.316 28.666,9.178 28.74,8.998 28.75,8.9 28.75,-8.9 28.74,-8.998 28.666,-9.178 28.528,-9.316 28.348,-9.39 28.25,-9.4 0.25,-9.4 0.25,-10.9 28.25,-10.9 28.447,-10.9 28.833,-10.823 29.197,-10.672 29.525,-10.454 29.804,-10.175 30.022,-9.847 30.173,-9.483 30.25,-9.097
  region: -30.25,-8.9 -30.25,8.9 -30.25,9.097 -30.173,9.483 -30.022,9.847 -29.804,10.175 -29.525,10.454 -29.197,10.672 -28.833,10.823 -28.447,10.9 -28.25,10.9 -0.25,10.9 -0.25,9.4 -28.25,9.4 -28.348,9.39 -28.528,9.316 -28.666,9.178 -28.74,8.998 -28.75,8.9 -28.75,-8.9 -28.74,-8.998 -28.666,-9.178 -28.528,-9.316 -28.348,-9.39 -28.25,-9.4 -0.25,-9.4 -0.25,-10.9 -28.25,-10.9 -28.447,-10.9 -28.833,-10.823 -29.197,-10.672 -29.525,-10.454 -29.804,-10.175 -30.022,-9.847 -30.173,-9.483 -30.25,-9.097
Assembly Notes:
  text "recommended tin paste thickness=0.5mm / customer to define the final stencil gap" at -10,-13.55 h0.6
Top Component Outline:
  lines w0.1: -29.65,-8.8 ccw(c-28.15,-8.8) -28.15,-10.3 28.15,-10.3 ccw(c28.15,-8.8) 29.65,-8.8 29.65,8.8 ccw(c28.15,8.8) 28.15,10.3 -28.15,10.3 ccw(c-28.15,8.8) -29.65,8.8 -29.65,-8.8
Top 3D Body:
  lines w0.1: -29.65,-8.8 ccw(c-28.15,-8.8) -28.15,-10.3 28.15,-10.3 ccw(c28.15,-8.8) 29.65,-8.8 29.65,8.8 ccw(c28.15,8.8) 28.15,10.3 -28.15,10.3 ccw(c-28.15,8.8) -29.65,8.8 -29.65,-8.8
Top Courtyard:
  lines w0.05: -30.45,-11.1 -30.45,11.1 30.45,11.1 30.45,-11.1 -30.45,-11.1
Top Component Center:
  lines w0.05: -0.5,0 0.5,0 ; 0,-0.5 0,0.5
Top Designator (Mech19):
  text ".Designator" at -7.498,-0.5 h1.5
3D body "3670593.stp": height 2.8, standoff -0.6, extent -29.65,-10.3 29.65,10.3

## 3670595 [mm] "Shielding Cabinet, SMT Frame Seamless, 59.5x50.4x3.2mm"
height 3.2
pads (4):
  rect 1x30 smd paste-2539.97 mask-2222: 1(-29.6,0) 1(29.6,0)
  rect 30x1 smd paste-2539.97 mask-2222: 1(0,-25.05) 1(0,25.05)
Top Layer:
  region: -30.35,-1 -30.35,22.7 -30.35,22.903 -30.297,23.306 -30.192,23.699 -30.036,24.074 -29.833,24.426 -29.586,24.748 -29.298,25.036 -28.976,25.283 -28.624,25.486 -28.249,25.642 -27.856,25.747 -27.453,25.8 -27.25,25.8 27.25,25.8 27.453,25.8 27.856,25.747 28.249,25.642 28.624,25.486 28.976,25.283 29.298,25.036 29.586,24.748 29.833,24.426 30.036,24.074 30.192,23.699 30.297,23.306 30.35,22.903 30.35,22.7 30.35,-1 28.85,-1 28.85,22.7 28.842,22.857 28.781,23.164 28.661,23.454 28.487,23.715 28.265,23.937 28.004,24.111 27.714,24.231 27.407,24.292 27.25,24.3 -27.25,24.3 -27.407,24.292 -27.714,24.231 -28.004,24.111 -28.265,23.937 -28.487,23.715 -28.661,23.454 -28.781,23.164 -28.842,22.857 -28.85,22.7 -28.85,-1
  region: -30.35,-0.25 -30.35,-22.7 -30.35,-22.903 -30.297,-23.306 -30.192,-23.699 -30.036,-24.074 -29.833,-24.426 -29.586,-24.748 -29.298,-25.036 -28.976,-25.283 -28.624,-25.486 -28.249,-25.642 -27.856,-25.747 -27.453,-25.8 -27.25,-25.8 27.25,-25.8 27.453,-25.8 27.856,-25.747 28.249,-25.642 28.624,-25.486 28.976,-25.283 29.298,-25.036 29.586,-24.748 29.833,-24.426 30.036,-24.074 30.192,-23.699 30.297,-23.306 30.35,-22.903 30.35,-22.7 30.35,-0.25 28.85,-0.25 28.85,-22.7 28.842,-22.857 28.781,-23.164 28.661,-23.454 28.487,-23.715 28.265,-23.937 28.004,-24.111 27.714,-24.231 27.407,-24.292 27.25,-24.3 -27.25,-24.3 -27.407,-24.292 -27.714,-24.231 -28.004,-24.111 -28.265,-23.937 -28.487,-23.715 -28.661,-23.454 -28.781,-23.164 -28.842,-22.857 -28.85,-22.7 -28.85,-0.25
Top Paste:
  region: -30.35,-0.25 -30.35,-22.7 -30.35,-22.903 -30.297,-23.306 -30.192,-23.699 -30.036,-24.074 -29.833,-24.426 -29.586,-24.748 -29.298,-25.036 -28.976,-25.283 -28.624,-25.486 -28.249,-25.642 -27.856,-25.747 -27.453,-25.8 -27.25,-25.8 27.25,-25.8 27.453,-25.8 27.856,-25.747 28.249,-25.642 28.624,-25.486 28.976,-25.283 29.298,-25.036 29.586,-24.748 29.833,-24.426 30.036,-24.074 30.192,-23.699 30.297,-23.306 30.35,-22.903 30.35,-22.7 30.35,-0.25 28.85,-0.25 28.85,-22.7 28.842,-22.857 28.781,-23.164 28.661,-23.454 28.487,-23.715 28.265,-23.937 28.004,-24.111 27.714,-24.231 27.407,-24.292 27.25,-24.3 -27.25,-24.3 -27.407,-24.292 -27.714,-24.231 -28.004,-24.111 -28.265,-23.937 -28.487,-23.715 -28.661,-23.454 -28.781,-23.164 -28.842,-22.857 -28.85,-22.7 -28.85,-0.25
  region: -30.35,0.25 -30.35,22.7 -30.35,22.903 -30.297,23.306 -30.192,23.699 -30.036,24.074 -29.833,24.426 -29.586,24.748 -29.298,25.036 -28.976,25.283 -28.624,25.486 -28.249,25.642 -27.856,25.747 -27.453,25.8 -27.25,25.8 27.25,25.8 27.453,25.8 27.856,25.747 28.249,25.642 28.624,25.486 28.976,25.283 29.298,25.036 29.586,24.748 29.833,24.426 30.036,24.074 30.192,23.699 30.297,23.306 30.35,22.903 30.35,22.7 30.35,0.25 28.85,0.25 28.85,22.7 28.842,22.857 28.781,23.164 28.661,23.454 28.487,23.715 28.265,23.937 28.004,24.111 27.714,24.231 27.407,24.292 27.25,24.3 -27.25,24.3 -27.407,24.292 -27.714,24.231 -28.004,24.111 -28.265,23.937 -28.487,23.715 -28.661,23.454 -28.781,23.164 -28.842,22.857 -28.85,22.7 -28.85,0.25
Assembly Notes:
  text "recommended tin paste thickness=0.5mm / customer to define the final stencil gap" at -9.75,-28.25 h0.6
Top Component Outline:
  lines w0.1: -29.75,-22.7 ccw(c-27.25,-22.7) -27.25,-25.2 27.25,-25.2 ccw(c27.25,-22.7) 29.75,-22.7 29.75,22.7 ccw(c27.25,22.7) 27.25,25.2 -27.25,25.2 ccw(c-27.25,22.7) -29.75,22.7 -29.75,-22.7
Top 3D Body:
  lines w0.1: -29.75,-22.7 ccw(c-27.25,-22.7) -27.25,-25.2 27.25,-25.2 ccw(c27.25,-22.7) 29.75,-22.7 29.75,22.7 ccw(c27.25,22.7) 27.25,25.2 -27.25,25.2 ccw(c-27.25,22.7) -29.75,22.7 -29.75,-22.7
Top Courtyard:
  lines w0.05: -30.55,-26 -30.55,26 30.55,26 30.55,-26 -30.55,-26
Top Component Center:
  lines w0.05: -0.5,0 0.5,0 ; 0,-0.5 0,0.5
Top Designator (Mech19):
  text ".Designator" at -7.498,-0.5 h1.5
3D body "3670595.stp": height 3.2, standoff 0, extent -29.75,-25.2 29.75,25.2

## 3670631 [mm] "Shielding Cabinet, SMT Frame Seamless, 63.1x35.5x2.8mm"
height 2.8
pads (4):
  rect 1x30 smd paste-2539.97 mask-2222: 1(-31.4,0) 1(31.4,0)
  rect 40x1 smd paste-2539.97 mask-2222: 1(0,-17.6) 1(0,17.6)
Top Layer:
  region: -32.15,-1 -32.15,16.15 -32.15,16.367 -32.065,16.792 -31.9,17.192 -31.659,17.552 -31.352,17.859 -30.992,18.1 -30.592,18.265 -30.167,18.35 -29.95,18.35 29.95,18.35 30.167,18.35 30.592,18.265 30.992,18.1 31.352,17.859 31.659,17.552 31.9,17.192 32.065,16.792 32.15,16.367 32.15,16.15 32.15,-1 30.65,-1 30.65,16.15 30.647,16.219 30.62,16.353 30.567,16.48 30.491,16.594 30.394,16.691 30.28,16.767 30.153,16.82 30.019,16.847 29.95,16.85 -29.95,16.85 -30.019,16.847 -30.153,16.82 -30.28,16.767 -30.394,16.691 -30.491,16.594 -30.567,16.48 -30.62,16.353 -30.647,16.219 -30.65,16.15 -30.65,-1
  region: -32.15,-0.25 -32.15,-16.15 -32.15,-16.367 -32.065,-16.792 -31.9,-17.192 -31.659,-17.552 -31.352,-17.859 -30.992,-18.1 -30.592,-18.265 -30.167,-18.35 -29.95,-18.35 29.95,-18.35 30.167,-18.35 30.592,-18.265 30.992,-18.1 31.352,-17.859 31.659,-17.552 31.9,-17.192 32.065,-16.792 32.15,-16.367 32.15,-16.15 32.15,-0.25 30.65,-0.25 30.65,-16.15 30.647,-16.219 30.62,-16.353 30.567,-16.48 30.491,-16.594 30.394,-16.691 30.28,-16.767 30.153,-16.82 30.019,-16.847 29.95,-16.85 -29.95,-16.85 -30.019,-16.847 -30.153,-16.82 -30.28,-16.767 -30.394,-16.691 -30.491,-16.594 -30.567,-16.48 -30.62,-16.353 -30.647,-16.219 -30.65,-16.15 -30.65,-0.25
Top Paste:
  region: -32.15,-0.25 -32.15,-16.15 -32.15,-16.367 -32.065,-16.792 -31.9,-17.192 -31.659,-17.552 -31.352,-17.859 -30.992,-18.1 -30.592,-18.265 -30.167,-18.35 -29.95,-18.35 29.95,-18.35 30.167,-18.35 30.592,-18.265 30.992,-18.1 31.352,-17.859 31.659,-17.552 31.9,-17.192 32.065,-16.792 32.15,-16.367 32.15,-16.15 32.15,-0.25 30.65,-0.25 30.65,-16.15 30.647,-16.219 30.62,-16.353 30.567,-16.48 30.491,-16.594 30.394,-16.691 30.28,-16.767 30.153,-16.82 30.019,-16.847 29.95,-16.85 -29.95,-16.85 -30.019,-16.847 -30.153,-16.82 -30.28,-16.767 -30.394,-16.691 -30.491,-16.594 -30.567,-16.48 -30.62,-16.353 -30.647,-16.219 -30.65,-16.15 -30.65,-0.25
  region: -32.15,0.25 -32.15,16.15 -32.15,16.367 -32.065,16.792 -31.9,17.192 -31.659,17.552 -31.352,17.859 -30.992,18.1 -30.592,18.265 -30.167,18.35 -29.95,18.35 29.95,18.35 30.167,18.35 30.592,18.265 30.992,18.1 31.352,17.859 31.659,17.552 31.9,17.192 32.065,16.792 32.15,16.367 32.15,16.15 32.15,0.25 30.65,0.25 30.65,16.15 30.647,16.219 30.62,16.353 30.567,16.48 30.491,16.594 30.394,16.691 30.28,16.767 30.153,16.82 30.019,16.847 29.95,16.85 -29.95,16.85 -30.019,16.847 -30.153,16.82 -30.28,16.767 -30.394,16.691 -30.491,16.594 -30.567,16.48 -30.62,16.353 -30.647,16.219 -30.65,16.15 -30.65,0.25
Assembly Notes:
  text "recommended tin paste thickness=0.5mm / customer to define the final stencil gap" at -9.1,-20.95 h0.6
Top Component Outline:
  lines w0.1: -31.55,-16.25 ccw(c-30.05,-16.25) -30.05,-17.75 30.05,-17.75 ccw(c30.05,-16.25) 31.55,-16.25 31.55,16.25 ccw(c30.05,16.25) 30.05,17.75 -30.05,17.75 ccw(c-30.05,16.25) -31.55,16.25 -31.55,-16.25
Top 3D Body:
  lines w0.1: -31.55,-16.25 ccw(c-30.05,-16.25) -30.05,-17.75 30.05,-17.75 ccw(c30.05,-16.25) 31.55,-16.25 31.55,16.25 ccw(c30.05,16.25) 30.05,17.75 -30.05,17.75 ccw(c-30.05,16.25) -31.55,16.25 -31.55,-16.25
Top Courtyard:
  lines w0.05: -32.35,-18.55 32.35,-18.55 32.35,18.55 -32.35,18.55 -32.35,-18.55
Top Component Center:
  lines w0.05: -0.5,0 0.5,0 ; 0,-0.5 0,0.5
Top Designator (Mech19):
  text ".Designator" at -7.498,-0.5 h1.5
3D body "3670631.stp": height 2.8, standoff 0, extent -31.55,-17.75 31.55,17.75

## 3670638 [mm] "Shielding Cabinet, SMT Frame Seamless, 63.8x36.3x11mm"
height 11
pads (4):
  rect 1x30 smd paste-2539.97 mask-2222: 1(-31.75,0) 1(31.75,0)
  rect 40x1 smd paste-2539.97 mask-2222: 1(0,-18) 1(0,18)
Top Layer:
  region: -32.5,-1 -32.5,14.65 -32.5,14.919 -32.43,15.452 -32.291,15.971 -32.085,16.467 -31.816,16.933 -31.489,17.359 -31.109,17.739 -30.683,18.066 -30.217,18.335 -29.721,18.541 -29.202,18.68 -28.669,18.75 -28.4,18.75 28.4,18.75 28.669,18.75 29.202,18.68 29.721,18.541 30.217,18.335 30.683,18.066 31.109,17.739 31.489,17.359 31.816,16.933 32.085,16.467 32.291,15.971 32.43,15.452 32.5,14.919 32.5,14.65 32.5,-1 31,-1 31,14.65 30.987,14.905 30.888,15.405 30.693,15.876 30.41,16.299 30.049,16.66 29.626,16.943 29.155,17.138 28.655,17.237 28.4,17.25 -28.4,17.25 -28.655,17.237 -29.155,17.138 -29.626,16.943 -30.049,16.66 -30.41,16.299 -30.693,15.876 -30.888,15.405 -30.987,14.905 -31,14.65 -31,-1
  region: -32.5,-0.25 -32.5,-14.65 -32.5,-14.919 -32.43,-15.452 -32.291,-15.971 -32.085,-16.467 -31.816,-16.933 -31.489,-17.359 -31.109,-17.739 -30.683,-18.066 -30.217,-18.335 -29.721,-18.541 -29.202,-18.68 -28.669,-18.75 -28.4,-18.75 28.4,-18.75 28.669,-18.75 29.202,-18.68 29.721,-18.541 30.217,-18.335 30.683,-18.066 31.109,-17.739 31.489,-17.359 31.816,-16.933 32.085,-16.467 32.291,-15.971 32.43,-15.452 32.5,-14.919 32.5,-14.65 32.5,-0.25 31,-0.25 31,-14.65 30.987,-14.905 30.888,-15.405 30.693,-15.876 30.41,-16.299 30.049,-16.66 29.626,-16.943 29.155,-17.138 28.655,-17.237 28.4,-17.25 -28.4,-17.25 -28.655,-17.237 -29.155,-17.138 -29.626,-16.943 -30.049,-16.66 -30.41,-16.299 -30.693,-15.876 -30.888,-15.405 -30.987,-14.905 -31,-14.65 -31,-0.25
Top Paste:
  region: -32.5,-0.25 -32.5,-14.65 -32.5,-14.919 -32.43,-15.452 -32.291,-15.971 -32.085,-16.467 -31.816,-16.933 -31.489,-17.359 -31.109,-17.739 -30.683,-18.066 -30.217,-18.335 -29.721,-18.541 -29.202,-18.68 -28.669,-18.75 -28.4,-18.75 28.4,-18.75 28.669,-18.75 29.202,-18.68 29.721,-18.541 30.217,-18.335 30.683,-18.066 31.109,-17.739 31.489,-17.359 31.816,-16.933 32.085,-16.467 32.291,-15.971 32.43,-15.452 32.5,-14.919 32.5,-14.65 32.5,-0.25 31,-0.25 31,-14.65 30.987,-14.905 30.888,-15.405 30.693,-15.876 30.41,-16.299 30.049,-16.66 29.626,-16.943 29.155,-17.138 28.655,-17.237 28.4,-17.25 -28.4,-17.25 -28.655,-17.237 -29.155,-17.138 -29.626,-16.943 -30.049,-16.66 -30.41,-16.299 -30.693,-15.876 -30.888,-15.405 -30.987,-14.905 -31,-14.65 -31,-0.25
  region: -32.5,0.25 -32.5,14.65 -32.5,14.919 -32.43,15.452 -32.291,15.971 -32.085,16.467 -31.816,16.933 -31.489,17.359 -31.109,17.739 -30.683,18.066 -30.217,18.335 -29.721,18.541 -29.202,18.68 -28.669,18.75 -28.4,18.75 28.4,18.75 28.669,18.75 29.202,18.68 29.721,18.541 30.217,18.335 30.683,18.066 31.109,17.739 31.489,17.359 31.816,16.933 32.085,16.467 32.291,15.971 32.43,15.452 32.5,14.919 32.5,14.65 32.5,0.25 31,0.25 31,14.65 30.987,14.905 30.888,15.405 30.693,15.876 30.41,16.299 30.049,16.66 29.626,16.943 29.155,17.138 28.655,17.237 28.4,17.25 -28.4,17.25 -28.655,17.237 -29.155,17.138 -29.626,16.943 -30.049,16.66 -30.41,16.299 -30.693,15.876 -30.888,15.405 -30.987,14.905 -31,14.65 -31,0.25
Assembly Notes:
  text "recommended tin paste thickness=0.5mm / customer to define the final stencil gap" at -9.1,-20.95 h0.6
Top Component Outline:
  lines w0.1: -31.9,-14.65 ccw(c-28.4,-14.65) -28.4,-18.15 28.4,-18.15 ccw(c28.4,-14.65) 31.9,-14.65 31.9,14.65 ccw(c28.4,14.65) 28.4,18.15 -28.4,18.15 ccw(c-28.4,14.65) -31.9,14.65 -31.9,-14.65
Top 3D Body:
  lines w0.1: -31.9,-14.65 ccw(c-28.4,-14.65) -28.4,-18.15 28.4,-18.15 ccw(c28.4,-14.65) 31.9,-14.65 31.9,14.65 ccw(c28.4,14.65) 28.4,18.15 -28.4,18.15 ccw(c-28.4,14.65) -31.9,14.65 -31.9,-14.65
Top Courtyard:
  lines w0.05: -32.7,-18.95 -32.7,18.95 32.7,18.95 32.7,-18.95 -32.7,-18.95
Top Component Center:
  lines w0.05: -0.5,0 0.5,0 ; 0,-0.5 0,0.5
Top Designator (Mech19):
  text ".Designator" at -7.498,-0.5 h1.5
3D body "3670638.stp": height 11, standoff 0, extent -31.9,-18.15 31.9,18.15

## 3670737 [mm] "Shielding Cabinet, SMT Frame Seamless, 73.7x28.1x2.9mm"
height 2.9
pads (6):
  rect 1x20 smd paste-2539.97 mask-2222: 1(-36.7,0) 1(36.7,0)
  oval 2.5x1.5 hole 0.8 slot 1.8 at 0 deg: 1(-33.65,13.9) 1(33.65,-13.9)
  rect 40x1 smd paste-2539.97 mask-2222: 1(0,-13.9) 1(0,13.9)
Top Layer:
  region: -37.45,-1 -37.45,11.75 -37.45,11.94 -37.4,12.317 -37.302,12.684 -37.157,13.035 -36.966,13.365 -36.735,13.666 -36.466,13.935 -36.165,14.166 -35.835,14.357 -35.484,14.502 -35.117,14.6 -34.74,14.65 -34.55,14.65 34.55,14.65 34.74,14.65 35.117,14.6 35.484,14.502 35.835,14.357 36.165,14.166 36.466,13.935 36.735,13.666 36.966,13.365 37.157,13.035 37.302,12.684 37.4,12.317 37.45,11.94 37.45,11.75 37.45,-1 35.95,-1 35.95,11.75 35.943,11.887 35.89,12.156 35.785,12.41 35.632,12.638 35.438,12.832 35.21,12.985 34.956,13.09 34.687,13.143 34.55,13.15 -34.55,13.15 -34.687,13.143 -34.956,13.09 -35.21,12.985 -35.438,12.832 -35.632,12.638 -35.785,12.41 -35.89,12.156 -35.943,11.887 -35.95,11.75 -35.95,-1
  region: -37.45,-0.25 -37.45,-11.75 -37.45,-11.94 -37.4,-12.317 -37.302,-12.684 -37.157,-13.035 -36.966,-13.365 -36.735,-13.666 -36.466,-13.935 -36.165,-14.166 -35.835,-14.357 -35.484,-14.502 -35.117,-14.6 -34.74,-14.65 -34.55,-14.65 34.55,-14.65 34.74,-14.65 35.117,-14.6 35.484,-14.502 35.835,-14.357 36.165,-14.166 36.466,-13.935 36.735,-13.666 36.966,-13.365 37.157,-13.035 37.302,-12.684 37.4,-12.317 37.45,-11.94 37.45,-11.75 37.45,-0.25 35.95,-0.25 35.95,-11.75 35.943,-11.887 35.89,-12.156 35.785,-12.41 35.632,-12.638 35.438,-12.832 35.21,-12.985 34.956,-13.09 34.687,-13.143 34.55,-13.15 -34.55,-13.15 -34.687,-13.143 -34.956,-13.09 -35.21,-12.985 -35.438,-12.832 -35.632,-12.638 -35.785,-12.41 -35.89,-12.156 -35.943,-11.887 -35.95,-11.75 -35.95,-0.25
Top Paste:
  region: -37.45,-0.25 -37.45,-11.75 -37.45,-11.94 -37.4,-12.317 -37.302,-12.684 -37.157,-13.035 -36.966,-13.365 -36.735,-13.666 -36.466,-13.935 -36.165,-14.166 -35.835,-14.357 -35.484,-14.502 -35.117,-14.6 -34.74,-14.65 -34.55,-14.65 34.55,-14.65 34.74,-14.65 35.117,-14.6 35.484,-14.502 35.835,-14.357 36.165,-14.166 36.466,-13.935 36.735,-13.666 36.966,-13.365 37.157,-13.035 37.302,-12.684 37.4,-12.317 37.45,-11.94 37.45,-11.75 37.45,-0.25 35.95,-0.25 35.95,-11.75 35.943,-11.887 35.89,-12.156 35.785,-12.41 35.632,-12.638 35.438,-12.832 35.21,-12.985 34.956,-13.09 34.687,-13.143 34.55,-13.15 -34.55,-13.15 -34.687,-13.143 -34.956,-13.09 -35.21,-12.985 -35.438,-12.832 -35.632,-12.638 -35.785,-12.41 -35.89,-12.156 -35.943,-11.887 -35.95,-11.75 -35.95,-0.25
  region: -37.45,0.25 -37.45,11.75 -37.45,11.94 -37.4,12.317 -37.302,12.684 -37.157,13.035 -36.966,13.365 -36.735,13.666 -36.466,13.935 -36.165,14.166 -35.835,14.357 -35.484,14.502 -35.117,14.6 -34.74,14.65 -34.55,14.65 34.55,14.65 34.74,14.65 35.117,14.6 35.484,14.502 35.835,14.357 36.165,14.166 36.466,13.935 36.735,13.666 36.966,13.365 37.157,13.035 37.302,12.684 37.4,12.317 37.45,11.94 37.45,11.75 37.45,0.25 35.95,0.25 35.95,11.75 35.943,11.887 35.89,12.156 35.785,12.41 35.632,12.638 35.438,12.832 35.21,12.985 34.956,13.09 34.687,13.143 34.55,13.15 -34.55,13.15 -34.687,13.143 -34.956,13.09 -35.21,12.985 -35.438,12.832 -35.632,12.638 -35.785,12.41 -35.89,12.156 -35.943,11.887 -35.95,11.75 -35.95,0.25
Assembly Notes:
  text "recommended tin paste thickness=0.5mm / customer to define the final stencil gap" at -9.45,-17.4 h0.6
Top Component Outline:
  lines w0.1: -36.85,-11.8 ccw(c-34.6,-11.8) -34.6,-14.05 34.6,-14.05 ccw(c34.6,-11.8) 36.85,-11.8 36.85,11.8 ccw(c34.6,11.8) 34.6,14.05 -34.6,14.05 ccw(c-34.6,11.8) -36.85,11.8 -36.85,-11.8
Top 3D Body:
  lines w0.1: -36.85,-11.8 ccw(c-34.6,-11.8) -34.6,-14.05 34.6,-14.05 ccw(c34.6,-11.8) 36.85,-11.8 36.85,11.8 ccw(c34.6,11.8) 34.6,14.05 -34.6,14.05 ccw(c-34.6,11.8) -36.85,11.8 -36.85,-11.8
Top Courtyard:
  lines w0.05: -37.65,-14.85 37.65,-14.85 37.65,14.85 -37.65,14.85 -37.65,-14.85
Top Component Center:
  lines w0.05: -0.5,0 0.5,0 ; 0,-0.5 0,0.5
Top Designator (Mech19):
  text ".Designator" at -7.498,-0.5 h1.5
3D body "3670737.stp": height 2.9, standoff -1, extent -36.85,-14.05 36.85,14.05

## 36103166S [mm] "Shielding Cabinet, SMD Frame, body 16.5x16.5mm"
height 3.65
pads (12):
  rect 1x4.35 smd: 1(-8.15,-6.475) 1(-8.15,6.475) 1(8.15,-6.475) 1(8.15,6.475)
  rect 1x3.3 smd: 1(-8.15,0) 1(8.15,0)
  rect 4.35x1 smd: 1(-6.475,-8.15) 1(-6.475,8.15) 1(6.475,-8.15) 1(6.475,8.15)
  rect 3.3x1 smd: 1(0,-8.15) 1(0,8.15)
Top Overlay:
  lines w0.2: -8.3,-4 -8.3,-1.95 ; -8.3,1.95 -8.3,4 ; -4,-8.3 -1.95,-8.3 ; -4,8.3 -1.95,8.3 ; 1.95,-8.3 4,-8.3 ; 1.95,8.3 4,8.3 ; 8.3,-4 8.3,-1.95 ; 8.3,1.95 8.3,4
Top Component Outline:
  lines w0.1: -8.25,-8.25 -8.25,8.25 8.25,8.25 8.25,-8.25 -8.25,-8.25
Top 3D Body:
  lines w0.1: -8.25,-8.25 8.25,-8.25 8.25,8.25 -8.25,8.25 -8.25,-8.25
Top Courtyard:
  lines w0.05: -8.85,-8.85 -8.85,8.85 8.85,8.85 8.85,-8.85 -8.85,-8.85
Top Component Center:
  lines w0.05: -0.5,0 0.5,0 ; 0,-0.5 0,0.5
Top Designator (Mech19):
  text ".Designator" at -7.498,-0.5 h1.5
3D body "36103166S.stp": height 3.6, standoff 0, extent -8.25,-8.25 8.25,8.25

## 36103205 [mm] "Shielding Cabinet, SMD Frame, body 21x21mm"
height 3.6
pads (16):
  rect 1x3.3 smd: 1(-10.25,-9.1) 1(-10.25,9.1) 1(10.25,-9.1) 1(10.25,9.1)
  rect 1x2.6 smd: 1(-10.25,-3.75) 1(-10.25,3.75) 1(10.25,-3.75) 1(10.25,3.75)
  rect 3.3x1 smd: 1(-9.1,-10.25) 1(-9.1,10.25) 1(9.1,-10.25) 1(9.1,10.25)
  rect 2.6x1 smd: 1(-3.75,-10.25) 1(-3.75,10.25) 1(3.75,-10.25) 1(3.75,10.25)
Top Overlay:
  lines w0.2: -10.55,-7.15 -10.55,-5.35 ; -10.55,-2.15 -10.55,2.15 ; -10.55,5.35 -10.55,7.15 ; -7.15,-10.55 -5.35,-10.55 ; -7.15,10.55 -5.35,10.55 ; -2.15,-10.55 2.15,-10.55 ; -2.15,10.55 2.15,10.55 ; 5.35,-10.55 7.15,-10.55 ; 5.35,10.55 7.15,10.55 ; 10.55,-7.15 10.55,-5.35 ; 10.55,-2.15 10.55,2.15 ; 10.55,5.35 10.55,7.15
Top Component Outline:
  lines w0.1: -10.5,-10.5 -10.5,10.5 10.5,10.5 10.5,-10.5 -10.5,-10.5
Top 3D Body:
  lines w0.1: -10.5,-10.5 10.5,-10.5 10.5,10.5 -10.5,10.5 -10.5,-10.5
Top Courtyard:
  lines w0.05: -10.95,-10.95 -10.95,10.95 10.95,10.95 10.95,-10.95 -10.95,-10.95
Top Component Center:
  lines w0.05: -0.5,0 0.5,0 ; 0,-0.5 0,0.5
Top Designator (Mech19):
  text ".Designator" at -7.498,-0.5 h1.5
3D body "36103205 (rev1).stp": height 3.5, standoff 0, extent -10.5,-10.5 10.5,10.5

## 36103205S [mm] "Shielding Cabinet, SMD Frame, body 20.4x20.4mm"
height 3.3
pads (16):
  rect 1x3.3 smd: 1(-10.25,-9.1) 1(-10.25,9.1) 1(10.25,-9.1) 1(10.25,9.1)
  rect 1x2.6 smd: 1(-10.25,-3.75) 1(-10.25,3.75) 1(10.25,-3.75) 1(10.25,3.75)
  rect 3.3x1 smd: 1(-9.1,-10.25) 1(-9.1,10.25) 1(9.1,-10.25) 1(9.1,10.25)
  rect 2.6x1 smd: 1(-3.75,-10.25) 1(-3.75,10.25) 1(3.75,-10.25) 1(3.75,10.25)
Top Overlay:
  lines w0.2: -10.25,-7.15 -10.25,-5.35 ; -10.25,-2.15 -10.25,2.15 ; -10.25,5.35 -10.25,7.15 ; -7.15,-10.25 -5.35,-10.25 ; -7.15,10.25 -5.35,10.25 ; -2.15,-10.25 2.15,-10.25 ; -2.15,10.25 2.15,10.25 ; 5.35,-10.25 7.15,-10.25 ; 5.35,10.25 7.15,10.25 ; 10.25,-7.15 10.25,-5.35 ; 10.25,-2.15 10.25,2.15 ; 10.25,5.35 10.25,7.15
Top Component Outline:
  lines w0.1: -10.2,-10.2 -10.2,10.2 10.2,10.2 10.2,-10.2 -10.2,-10.2
Top 3D Body:
  lines w0.1: -10.2,-10.2 10.2,-10.2 10.2,10.2 -10.2,10.2 -10.2,-10.2
Top Courtyard:
  lines w0.05: -10.95,-10.95 -10.95,10.95 10.95,10.95 10.95,-10.95 -10.95,-10.95
Top Component Center:
  lines w0.05: -0.5,0 0.5,0 ; 0,-0.5 0,0.5
Top Designator (Mech19):
  text ".Designator" at -7.498,-0.5 h1.5
3D body "36103205S.stp": height 3.2, standoff 0, extent -10.2,-10.2 10.2,10.2

## 36103255 [mm] "Shielding Cabinet, SMD Frame, body 26x26mm"
height 3.6
pads (20):
  rect 1x3.3 smd: 1(-12.75,-11.6) 1(-12.75,11.6) 1(12.75,-11.6) 1(12.75,11.6)
  rect 1x2.6 smd: 1(-12.75,-6.25) 1(-12.75,6.25) 1(12.75,-6.25) 1(12.75,6.25)
  rect 1x5.1 smd: 1(-12.75,0) 1(12.75,0)
  rect 3.3x1 smd: 1(-11.6,-12.75) 1(-11.6,12.75) 1(11.6,-12.75) 1(11.6,12.75)
  rect 2.6x1 smd: 1(-6.25,-12.75) 1(-6.25,12.75) 1(6.25,-12.75) 1(6.25,12.75)
  rect 5.1x1 smd: 1(0,-12.75) 1(0,12.75)
Top Overlay:
  lines w0.2: -13.05,-9.65 -13.05,-7.85 ; -13.05,-4.65 -13.05,-2.85 ; -13.05,2.85 -13.05,4.65 ; -13.05,7.85 -13.05,9.65 ; -9.65,-13.05 -7.85,-13.05 ; -9.65,13.05 -7.85,13.05 ; -4.65,-13.05 -2.85,-13.05 ; -4.65,13.05 -2.85,13.05 ; 2.85,-13.05 4.65,-13.05 ; 2.85,13.05 4.65,13.05 ; 7.85,-13.05 9.65,-13.05 ; 7.85,13.05 9.65,13.05 ; 13.05,-9.65 13.05,-7.85 ; 13.05,-4.65 13.05,-2.85 ; 13.05,2.85 13.05,4.65 ; 13.05,7.85 13.05,9.65
Top Component Outline:
  lines w0.1: -13,-13 13,-13 13,13 -13,13 -13,-13
Top 3D Body:
  lines w0.1: -13,-13 -13,13 13,13 13,-13 -13,-13
Top Courtyard:
  lines w0.05: -13.45,-13.45 13.45,-13.45 13.45,13.45 -13.45,13.45 -13.45,-13.45
Top Component Center:
  lines w0.05: -0.5,0 0.5,0 ; 0,-0.5 0,0.5
Top Designator (Mech19):
  text ".Designator" at -7.498,-0.5 h1.5
3D body "36103255.stp": height 3.5, standoff 0, extent -13,-13 13,13

## 36103255S [mm] "Shielding Cabinet, SMD Frame, 25.4x25.4mm"
height 3.3
pads (20):
  rect 1x3.3 smd: 1(-12.75,-11.6) 1(-12.75,11.6) 1(12.75,-11.6) 1(12.75,11.6)
  rect 1x2.6 smd: 1(-12.75,-6.25) 1(-12.75,6.25) 1(12.75,-6.25) 1(12.75,6.25)
  rect 1x5.1 smd: 1(-12.75,0) 1(12.75,0)
  rect 3.3x1 smd: 1(-11.6,-12.75) 1(-11.6,12.75) 1(11.6,-12.75) 1(11.6,12.75)
  rect 2.6x1 smd: 1(-6.25,-12.75) 1(-6.25,12.75) 1(6.25,-12.75) 1(6.25,12.75)
  rect 5.1x1 smd: 1(0,-12.75) 1(0,12.75)
Top Overlay:
  lines w0.2: -12.75,-9.65 -12.75,-7.85 ; -12.75,-4.65 -12.75,-2.85 ; -12.75,2.85 -12.75,4.65 ; -12.75,7.85 -12.75,9.65 ; -9.65,-12.75 -7.85,-12.75 ; -9.65,12.75 -7.85,12.75 ; -4.65,-12.75 -2.85,-12.75 ; -4.65,12.75 -2.85,12.75 ; 2.85,-12.75 4.65,-12.75 ; 2.85,12.75 4.65,12.75 ; 7.85,-12.75 9.65,-12.75 ; 7.85,12.75 9.65,12.75 ; 12.75,-9.65 12.75,-7.85 ; 12.75,-4.65 12.75,-2.85 ; 12.75,2.85 12.75,4.65 ; 12.75,7.85 12.75,9.65
Top Component Outline:
  lines w0.1: -12.7,-12.7 12.7,-12.7 12.7,12.7 -12.7,12.7 -12.7,-12.7
Top 3D Body:
  lines w0.1: -12.7,-12.7 -12.7,12.7 12.7,12.7 12.7,-12.7 -12.7,-12.7
Top Courtyard:
  lines w0.05: -13.45,-13.45 13.45,-13.45 13.45,13.45 -13.45,13.45 -13.45,-13.45
Top Component Center:
  lines w0.05: -0.5,0 0.5,0 ; 0,-0.5 0,0.5
Top Designator (Mech19):
  text ".Designator" at -7.498,-0.5 h1.5
3D body "36103255S.stp": height 3.2, standoff 0, extent -12.7,-12.7 12.7,12.7